# Altium schematic symbol library VCNL36826S.SchLib: 1 symbol
Pins are listed as number, name and electrical type; pins without a type are passive.

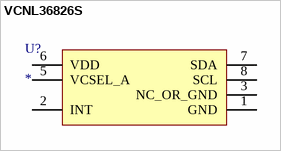
[diagram p0: symbol VCNL36826S]

## VCNL36826S
designator U?
Value: *
pins: 1 GND, 2 INT, 3 NC_OR_GND, 5 VCSEL_A, 6 VDD, 7 SDA, 8 SCL